# Altium footprint library CN 43045-0809.PcbLib: 1 footprints
Each footprint in its own frame and in the unit in brackets; x right, y up, seen from the top. Pads: shape width x height; smd on the part's side, far side on the other; paste and mask are expansions set on the pad; w line width, h text height; cw(c..) or ccw(c..) is an arc to the next point about the centre after c.
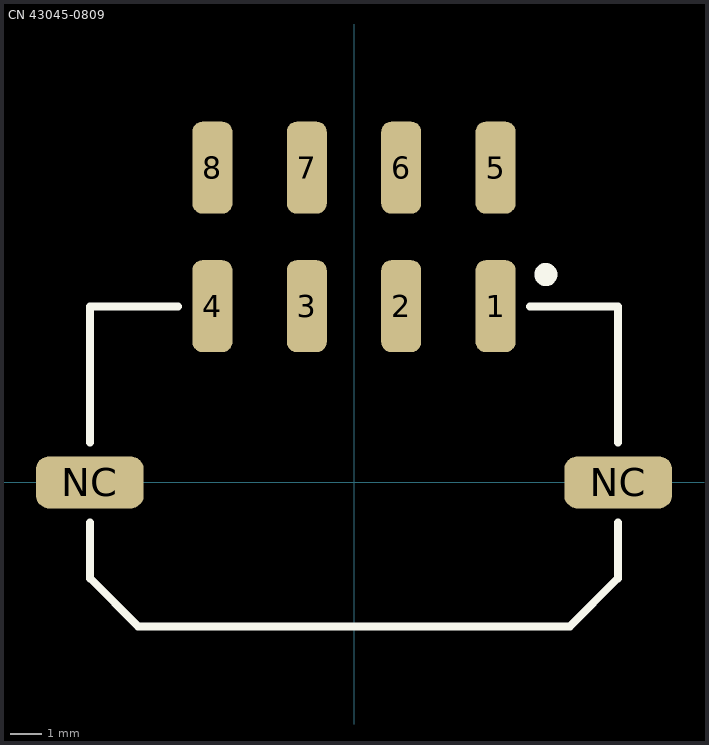
[diagram p0: the footprint, top view; thin cyan lines are the x and y axes]

## CN 43045-0809 [mm] "Molex Micro-Fit 043045 SMD 8CKT"
pads (10):
  rrect50% 1.27x2.921 smd: 1(4.5,5.6) 2(1.5,5.6) 3(-1.5,5.6) 4(-4.5,5.6) 5(4.5,10) 6(1.5,10) 7(-1.5,10) 8(-4.5,10)
  rrect50% 3.429x1.651 smd: NC(-8.395,0) NC(8.395,0)
Top Overlay:
  circle w0.381: c6.096,6.604 r0.178
  lines w0.254: -8.382,-1.27 -8.382,-3.048 -6.858,-4.572 0,-4.572 6.858,-4.572 8.382,-3.048 8.382,-1.27 ; -8.382,1.27 -8.382,5.588 -5.588,5.588 ; 5.588,5.588 8.382,5.588 8.382,1.27
3D body "430450809.stp": height 8.73, standoff -0.04, extent -9.825,-4.605 9.825,10.795